# EAGLE library part 62200821121 (library Header_R_ESP32)
CONN HEADER VERT 8POS 1.27MM Manufacturer's datasheet <https://katalog.we-online.com/em/datasheet/62200821121.pdf>
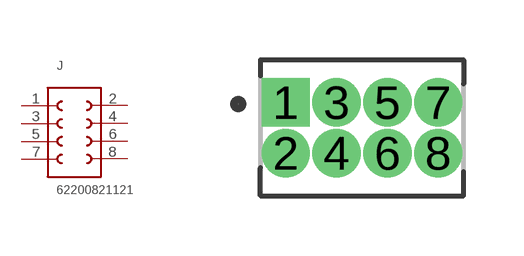
[diagram p36: symbol with the pads of 62200821121; footprint 62200821121]

Designator prefix J

## 62200821121 (CREATED_BY: PCBLayout.com; DIGIKEY_PART_NUMBER: 732-5373-ND; MANUFACTURER: Wurth Electronics Inc.; MPN: 62200821121)  [62200821121]
1  1  pas
2  2  pas
3  3  pas
4  4  pas
5  5  pas
6  6  pas
7  7  pas
8  8  pas

## Footprint 62200821121 (pad centres in mm)
drill 0.7 square: 1 -1.905,0.635
drill 0.7: 2 -1.905,-0.635; 3 -0.635,0.635; 4 -0.635,-0.635; 5 0.635,0.635; 6 0.635,-0.635; 7 1.905,0.635; 8 1.905,-0.635